# Altium schematic symbol library Vending.SchLib: 24 symbols
Pins are listed as number, name and electrical type; pins without a type are passive.

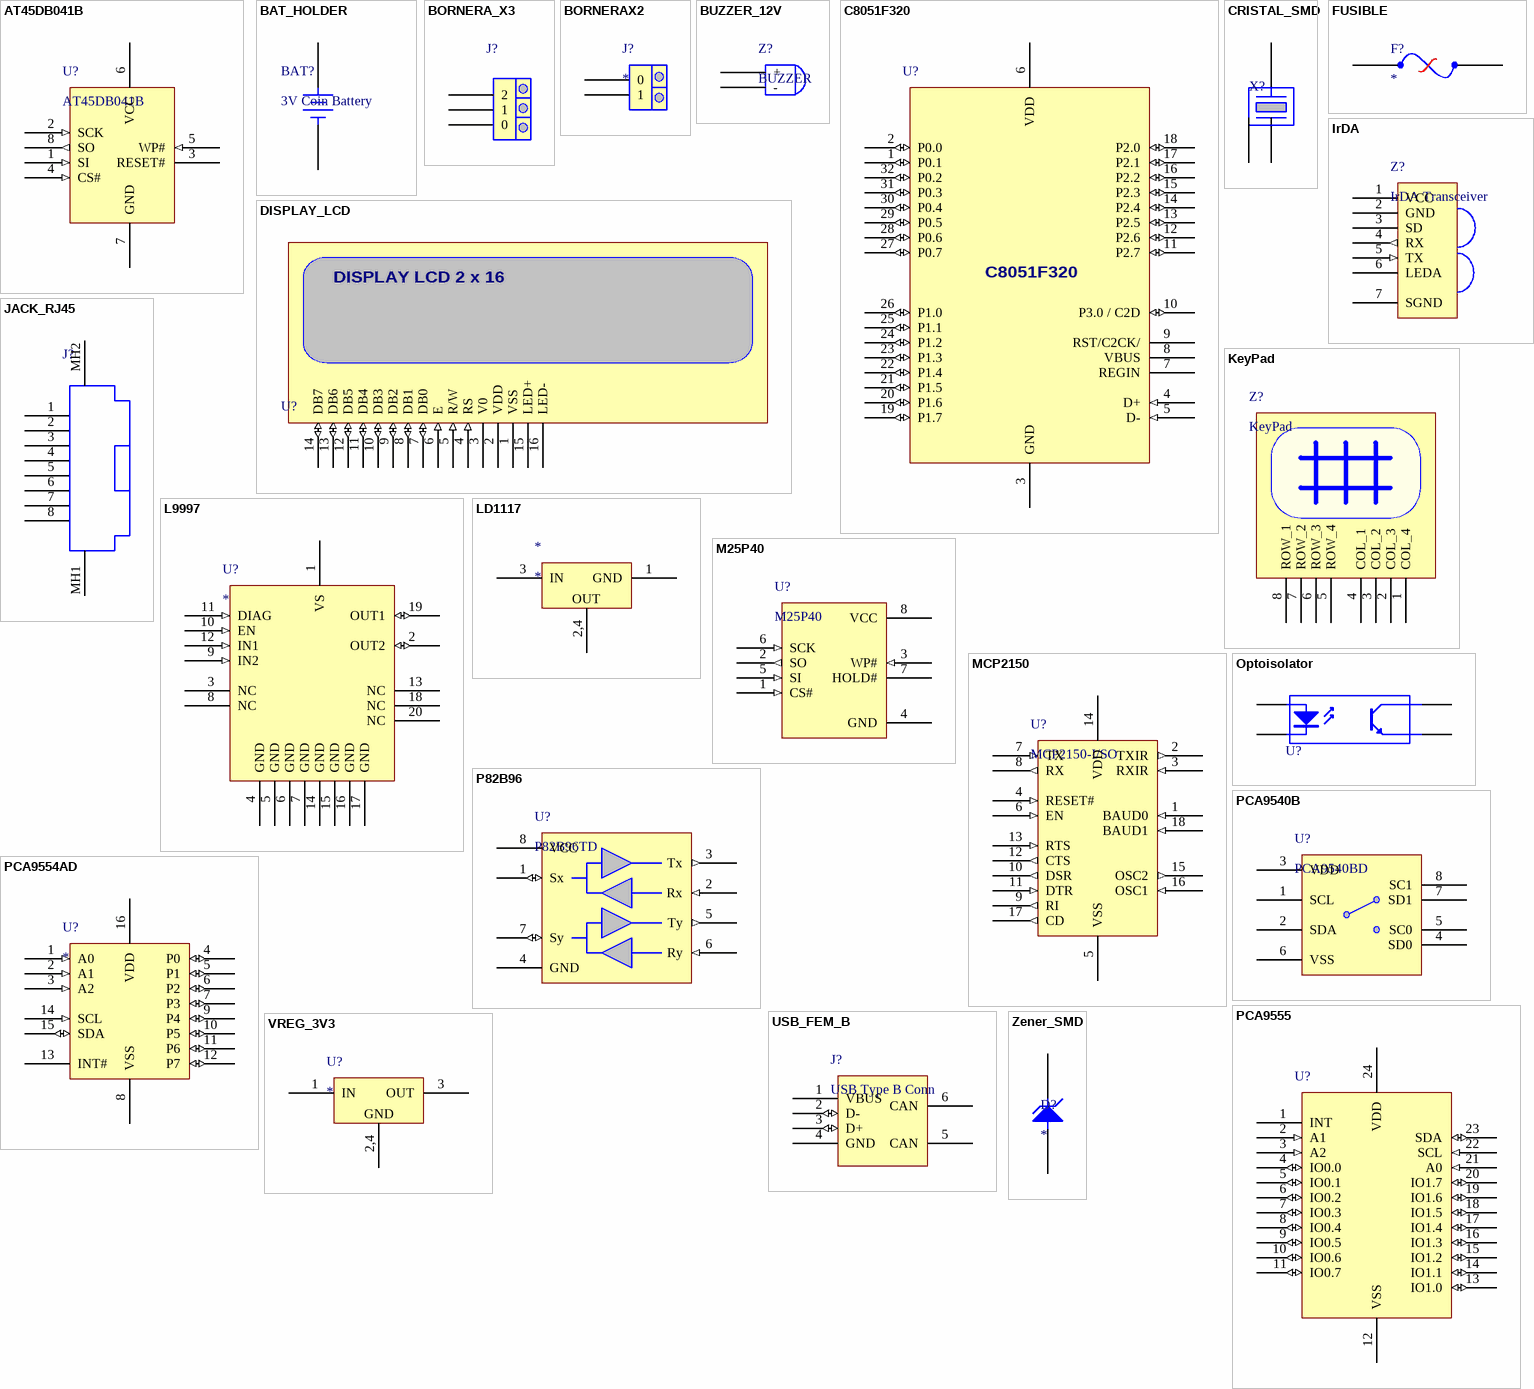
[diagram p0: symbols AT45DB041B to Zener_SMD]

## AT45DB041B
designator U?
4 Megabit DataFlash Memory
footprint SO-G8/P1.53
pins: 1 SI (in), 2 SCK (in), 3 RESET#, 4 CS# (in), 5 WP# (in), 6 VCC (power), 7 GND (power), 8 SO (out)

## BAT_HOLDER
designator BAT?, comment 3V Coin Battery
Coin Battery Holder
footprint BAT_HOLDER (Coin Battery Holder)
pins: Neg, Pos

## BORNERA_X3
designator J?  (value not drawn)
footprint BORNERA_X3
pins: 0, 1, 2

## BORNERAX2
designator J?
Bornera Enchufable
footprint BORNERAX2
pins: 0, 1

## BUZZER_12V
designator Z?, comment BUZZER
footprint BUZZER_12V
pins: 1 -, 2 +

## C8051F320
designator U?
SiLabs 8 bit Microcontroler
footprint QFP7x7-G32/N
footprint QFP7X7-G32/X.5N
pins: 1 P0.1 (io), 2 P0.0 (io), 3 GND (power), 4 D+ (in), 5 D- (in), 6 VDD (power), 7 REGIN, 8 VBUS, 9 RST/C2CK/, 10 P3.0 / C2D (io), 11 P2.7 (io), 12 P2.6 (io), 13 P2.5 (io), 14 P2.4 (io), 15 P2.3 (io), 16 P2.2 (io), 17 P2.1 (io), 18 P2.0 (io), 19 P1.7 (io), 20 P1.6 (io), 21 P1.5 (io), 22 P1.4 (io), 23 P1.3 (io), 24 P1.2 (io), 25 P1.1 (io), 26 P1.0 (io), 27 P0.7 (io), 28 P0.6 (io), 29 P0.5 (io), 30 P0.4 (io), 31 P0.3 (io), 32 P0.2 (io)

## CRISTAL_SMD
designator X?  (value not drawn)
footprint HC49/4H_SMX
footprint CRYSTAL_32KHZ
pins: 0, 1, 2

## DISPLAY_LCD
designator U?
Alphanumeric 2x20 LCD Display
footprint LCD_DISPLAY (Alphanumeric 2 x 20 LCD Display.)
pins: 1 VSS (power), 2 VDD (power), 3 V0, 4 RS (in), 5 R/W (in), 6 E (in), 7 DB0 (io), 8 DB1 (io), 9 DB2 (io), 10 DB3 (io), 11 DB4 (io), 12 DB5 (io), 13 DB6 (io), 14 DB7 (io), 15 LED+, 16 LED-
text: DISPLAY LCD 2 x 16

## FUSIBLE
designator F?
Resetteable Fuse
footprint RAD-0.2
pins: 1, 2

## IrDA
designator Z?, comment IrDA Transceiver
footprint IrDA
pins: 1 VCC (power), 2 GND (power), 3 SD, 4 RX (out), 5 TX (in), 6 LEDA, 7 SGND (power)

## JACK_RJ45
designator J?  (value not drawn)
Conector RJ45
footprint JACK1.27-4H8E
pins: 1, 2, 3, 4, 5, 6, 7, 8, MH1 CAN, MH2 CAN

## KeyPad
designator Z?
4x4 Matrix KeyPad
footprint MHDR1X8
footprint HDR1X8
pins: 1 COL_4, 2 COL_3, 3 COL_2, 4 COL_1, 5 ROW_4, 6 ROW_3, 7 ROW_2, 8 ROW_1

## L9997
designator U?
Dual Half Bridga Driver
footprint SO-G20
pins: 1 VS (power), 2 OUT2 (io), 3 NC, 4 GND (power), 5 GND (power), 6 GND (power), 7 GND (power), 8 NC, 9 IN2 (in), 10 EN (in), 11 DIAG (in), 12 IN1 (in), 13 NC, 14 GND (power), 15 GND (power), 16 GND (power), 17 GND (power), 18 NC, 19 OUT1 (io), 20 NC

## LD1117
designator *
pins: 1 GND (power), 2 OUT, 3 IN, 4 OUT
text: 2,4

## M25P40
designator U?
4 Mbit Serial Flash
footprint SO-G8/D5
pins: 1 CS# (in), 2 SO (out), 3 WP# (in), 4 GND (power), 5 SI (in), 6 SCK (in), 7 HOLD#, 8 VCC (power)

## MCP2150
designator U?, comment MCP2150-I/SO
IrDA Standard Protocol Stack Controller
footprint SO-G18/E7.7
pins: 1 BAUD0 (in), 2 TXIR (out), 3 RXIR (in), 4 RESET# (in), 5 VSS (power), 6 EN (in), 7 TX (in), 8 RX (out), 9 RI (out), 10 DSR (out), 11 DTR (in), 12 CTS (out), 13 RTS (in), 14 VDD (power), 15 OSC2 (out), 16 OSC1 (in), 17 CD (out), 18 BAUD1 (in)

## Optoisolator
designator U?
Optoisolator 4_SOP; Published: 24-Mar-1999; Revision: July-2002: Re-released for DXP Platform.; Publisher: Altium Limited
footprint SOP4
pins: 1 A, 2 K, 3 E, 4 C

## P82B96
designator U?, comment P82B96TD
Dual Bi-Directional I2C Bus Buffer SO8
footprint SO-G8
pins: 1 Sx (io), 2 Rx (in), 3 Tx (out), 4 GND (power), 5 Ty (out), 6 Ry (in), 7 Sy (io), 8 VCC (power)

## PCA9540B
designator U?, comment PCA9540BD
2-channel I2C Multiplexer SO8
footprint SO-G8
pins: 1 SCL, 2 SDA, 3 VDD (power), 4 SD0, 5 SC0, 6 VSS (power), 7 SD1, 8 SC1

## PCA9554AD
designator U?
8 bit I/O Expander for I2C bus
footprint SO-G16/G7.7
pins: 1 A0 (in), 2 A1 (in), 3 A2 (in), 4 P0 (io), 5 P1 (io), 6 P2 (io), 7 P3 (io), 8 VSS (power), 9 P4 (io), 10 P5 (io), 11 P6 (io), 12 P7 (io), 13 INT# (oc), 14 SCL (in), 15 SDA (io), 16 VDD (power)

## PCA9555
designator U?
16-bit I2C I/O Port
footprint SO-G24
pins: 1 INT (oc), 2 A1 (in), 3 A2 (in), 4 IO0.0 (io), 5 IO0.1 (io), 6 IO0.2 (io), 7 IO0.3 (io), 8 IO0.4 (io), 9 IO0.5 (io), 10 IO0.6 (io), 11 IO0.7 (io), 12 VSS (power), 13 IO1.0 (io), 14 IO1.1 (io), 15 IO1.2 (io), 16 IO1.3 (io), 17 IO1.4 (io), 18 IO1.5 (io), 19 IO1.6 (io), 20 IO1.7 (io), 21 A0 (in), 22 SCL (in), 23 SDA (io), 24 VDD (power)

## USB_FEM_B
designator J?, comment USB Type B Conn
USB Female Type B connector
footprint USB_FEM_B (USB Type B Receptacle Connector)
pins: 1 VBUS, 2 D- (io), 3 D+ (io), 4 GND, 5 CAN, 6 CAN

## VREG_3V3
designator U?
SMD SOT223 Voltage Regulator
footprint DSO-G3
pins: 1 IN (power), 2 GND, 3 OUT, 4 GND
text: 2,4

## Zener_SMD
designator D?
footprint SOD123
pins: 1 A, 2 K